# Altium footprint library shutdown_circuit.PcbLib: 38 footprints (part 3 of 3)
Each footprint in its own frame and in the unit in brackets; x right, y up, seen from the top. Pads: shape width x height; smd on the part's side, far side on the other; paste and mask are expansions set on the pad; w line width, h text height; cw(c..) or ccw(c..) is an arc to the next point about the centre after c.
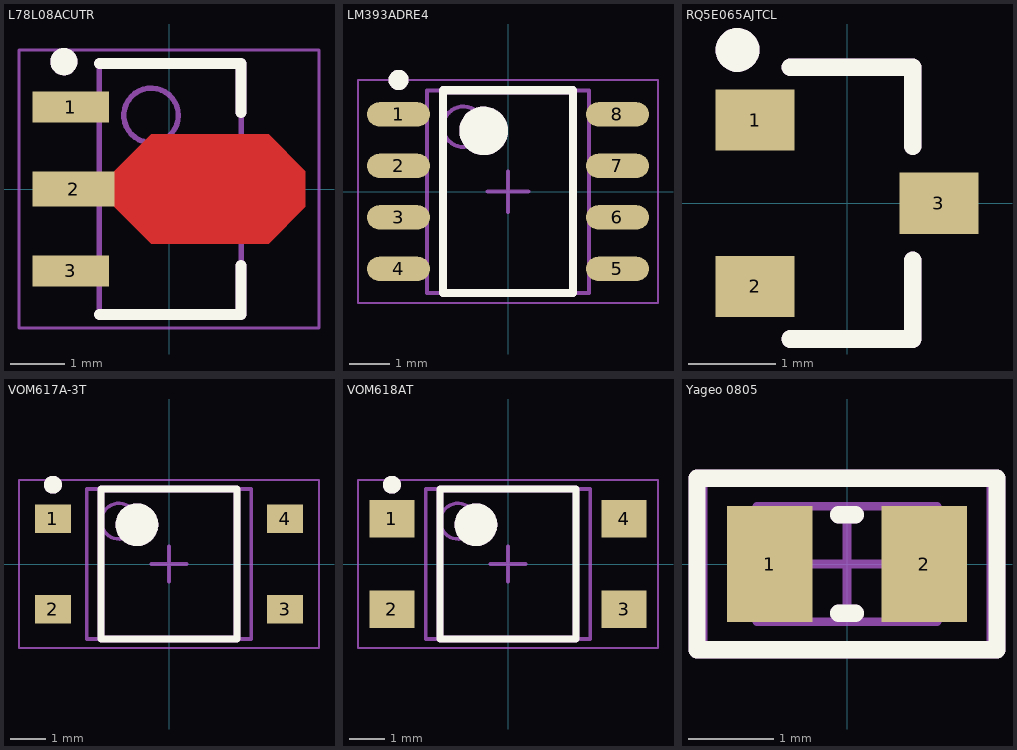
[diagram p2: the footprints below, top view; thin cyan lines are the x and y axes]

## L78L08ACUTR [mm] "SOT89, 3-Leads, Body 4.50x2.45mm, Pitch 1.50mm, Lead Span 4.1mm, IPC Medium Density"
height 1.6
pads (3):
  rect 1.4x0.57 smd: 1(-1.8,1.5) 3(-1.8,-1.5)
  rect 1.5x0.65 smd: 2(-1.75,0)
Top Layer:
  region: -1,0.325 -0.325,1 1.825,1 2.5,0.325 2.5,-0.325 1.825,-1 -0.325,-1 -1,-0.325
Top Overlay:
  circle w0.25: c-1.928,2.335 r0.125
  lines w0.2: -1.278,-2.3 1.322,-2.3 1.322,-1.4 ; -1.278,2.3 1.322,2.3 1.322,1.4
Assembly Top:
  circle w0.1: c-0.328,1.35 r0.5
  lines w0.1: -1.278,-2.3 -1.278,2.3 1.322,2.3 1.322,-2.3 -1.278,-2.3
Courtyard Top:
  lines w0.05: -2.75,-2.55 -2.75,2.55 2.75,2.55 2.75,-2.55 -2.75,-2.55
  lines w0.1: -0.478,0 0.522,0 ; 0.022,-0.5 0.022,0.5
Mechanical 29 (Mech29):
  circle w0.25: c-1.928,2.335 r0.125
  lines w0.2: -1.278,-2.3 1.322,-2.3 1.322,-1.4 ; -1.278,2.3 1.322,2.3 1.322,1.4
Mechanical 30:
  text "'.Designator'" at 0,0 h0.7
3D body: height 1.6, standoff 0, extent -1.278,-2.3 1.322,2.3

## LM393ADRE4 [mm]
height 1.75
pads (8):
  oval 1.55x0.6 smd: 1(-2.7,1.905) 2(-2.7,0.635) 3(-2.7,-0.635) 4(-2.7,-1.905) 5(2.7,-1.905) 6(2.7,-0.635) 7(2.7,0.635) 8(2.7,1.905)
Top Overlay:
  circle w0.6: c-0.6,1.5 r0.3
  circle w0.25: c-2.7,2.755 r0.125
  lines w0.2: -1.6,-2.5 1.6,-2.5 1.6,2.5 -1.6,2.5 -1.6,-2.5
Assembly Top:
  circle w0.1: c-1.1,1.6 r0.5
  lines w0.1: -2,-2.5 2,-2.5 2,2.5 -2,2.5 -2,-2.5
Courtyard Top:
  lines w0.05: -3.7,-2.75 3.7,-2.75 3.7,2.75 -3.7,2.75 -3.7,-2.75
  lines w0.1: -0.5,0 0.5,0 ; 0,-0.5 0,0.5
Mechanical 29 (Mech29):
  circle w0.6: c-0.6,1.5 r0.3
  circle w0.25: c-2.7,2.755 r0.125
  lines w0.2: -1.6,-2.5 1.6,-2.5 1.6,2.5 -1.6,2.5 -1.6,-2.5
Mechanical 30:
  text "'.Designator'" at 0,0 h1.54
3D body "LM393ADRE4  .step": height 1.75, standoff 0, extent -2.997,-2.5 2.997,2.5

## RQ5E065AJTCL [mm]
pads (3):
  rect 0.9x0.7 smd: 1(-1.05,0.95) 2(-1.05,-0.95) 3(1.05,0)
Top Overlay:
  circle w0.25: c-1.25,1.75 r0.125
  lines w0.2: -0.65,-1.55 0.75,-1.55 0.75,-0.65 ; -0.65,1.55 0.75,1.55 0.75,0.65
Mechanical 29 (Mech29):
  circle w0.25: c-1.25,1.75 r0.125
  lines w0.2: -0.65,-1.55 0.75,-1.55 0.75,-0.65 ; -0.65,1.55 0.75,1.55 0.75,0.65
Mechanical 30:
  text "'.Designator'" at 0,0 h0.7

## VOM617A-3T [mm]
height 2
pads (4):
  rect 1x0.8 smd: 1(-3.25,1.27) 2(-3.25,-1.27) 3(3.25,-1.27) 4(3.25,1.27)
Top Overlay:
  circle w0.6: c-0.9,1.1 r0.3
  circle w0.25: c-3.25,2.22 r0.125
  lines w0.2: -1.9,-2.1 1.9,-2.1 1.9,2.1 -1.9,2.1 -1.9,-2.1
Assembly Top:
  circle w0.1: c-1.4,1.2 r0.5
  lines w0.1: -2.3,-2.1 2.3,-2.1 2.3,2.1 -2.3,2.1 -2.3,-2.1
Courtyard Top:
  lines w0.05: -4.2,-2.35 4.2,-2.35 4.2,2.35 -4.2,2.35 -4.2,-2.35
  lines w0.1: -0.5,0 0.5,0 ; 0,-0.5 0,0.5
Mechanical 29 (Mech29):
  circle w0.25: c-3.25,2.22 r0.125
  circle w0.6: c-0.9,1.1 r0.3
  lines w0.2: -1.9,-2.1 -1.9,2.1 1.9,2.1 1.9,-2.1 -1.9,-2.1
Mechanical 30:
  text "'.Designator'" at 0,0 h1.54
3D body: height 2, standoff 0.09, extent -2.3,-2.1 2.3,2.1

## VOM618AT [mm]
height 2
pads (4):
  rect 1.254x1.054 smd: 1(-3.25,1.27) 2(-3.25,-1.27) 3(3.25,-1.27) 4(3.25,1.27)
Top Overlay:
  circle w0.6: c-0.9,1.1 r0.3
  circle w0.25: c-3.25,2.22 r0.125
  lines w0.2: -1.9,-2.1 1.9,-2.1 1.9,2.1 -1.9,2.1 -1.9,-2.1
Assembly Top:
  circle w0.1: c-1.4,1.2 r0.5
  lines w0.1: -2.3,-2.1 2.3,-2.1 2.3,2.1 -2.3,2.1 -2.3,-2.1
Courtyard Top:
  lines w0.05: -4.2,-2.35 4.2,-2.35 4.2,2.35 -4.2,2.35 -4.2,-2.35
  lines w0.1: -0.5,0 0.5,0 ; 0,-0.5 0,0.5
Mechanical 29 (Mech29):
  circle w0.25: c-3.25,2.22 r0.125
  circle w0.6: c-0.9,1.1 r0.3
  lines w0.2: -1.9,-2.1 -1.9,2.1 1.9,2.1 1.9,-2.1 -1.9,-2.1
Mechanical 30:
  text "'.Designator'" at 0,0 h0.7
3D body "VOM618AT.step": height 2, standoff 0, extent -3.375,-2.1 3.375,2.1

## Yageo 0805 [mm]
height 0.6
pads (2):
  rect 1x1.35 smd: 1(-0.9,0) 2(0.9,0)
Top Overlay:
  lines w0.2: -0.1,-0.575 0.1,-0.575 ; -0.1,0.575 0.1,0.575 ; -1.75,-1 -1.75,1 1.75,1 1.75,-1 -1.75,-1
Assembly Top:
  lines w0.1: -1.05,-0.675 -1.05,0.675 1.05,0.675 1.05,-0.675 -1.05,-0.675
Courtyard Top:
  lines w0.05: -1.65,-0.95 -1.65,0.95 1.65,0.95 1.65,-0.95 -1.65,-0.95
  lines w0.1: -0.5,0 0.5,0 ; 0,-0.5 0,0.5
Mechanical 29 (Mech29):
  lines w0.2: -0.1,-0.575 0.1,-0.575 ; -0.1,0.575 0.1,0.575 ; -1.75,-1 -1.75,1 1.75,1 1.75,-1 -1.75,-1
Mechanical 30:
  text "'.Designator'" at 0,0 h0.7
3D body: height 0.6, standoff 0, extent -0.7,-0.675 0.7,0.675
3D body: height 0.6, standoff 0, extent -1.05,-0.675 -0.7,0.675
3D body: height 0.6, standoff 0, extent 0.7,-0.675 1.05,0.675